# Altium schematic symbol library ADXL345.SchLib: 1 symbol
Pins are listed as number, name and electrical type; pins without a type are passive.

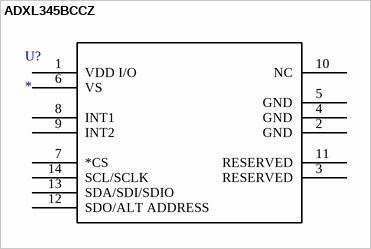
[diagram p0: symbol ADXL345BCCZ]

## ADXL345BCCZ
designator U?
Imported; RefDes: RefDes; Type: DEV; Value: Value
footprint LGA_CC-14-1
pins: 1 VDD I/O, 2 GND, 3 RESERVED, 4 GND, 5 GND, 6 VS, 7 *CS, 8 INT1, 9 INT2, 10 NC, 11 RESERVED, 12 SDO/ALT ADDRESS, 13 SDA/SDI/SDIO, 14 SCL/SCLK